# Altium footprint library 3 Pin Header Surface Mount.PcbLib: 1 footprints
Each footprint in its own frame and in the unit in brackets; x right, y up, seen from the top. Pads: shape width x height; smd on the part's side, far side on the other; paste and mask are expansions set on the pad; w line width, h text height; cw(c..) or ccw(c..) is an arc to the next point about the centre after c.
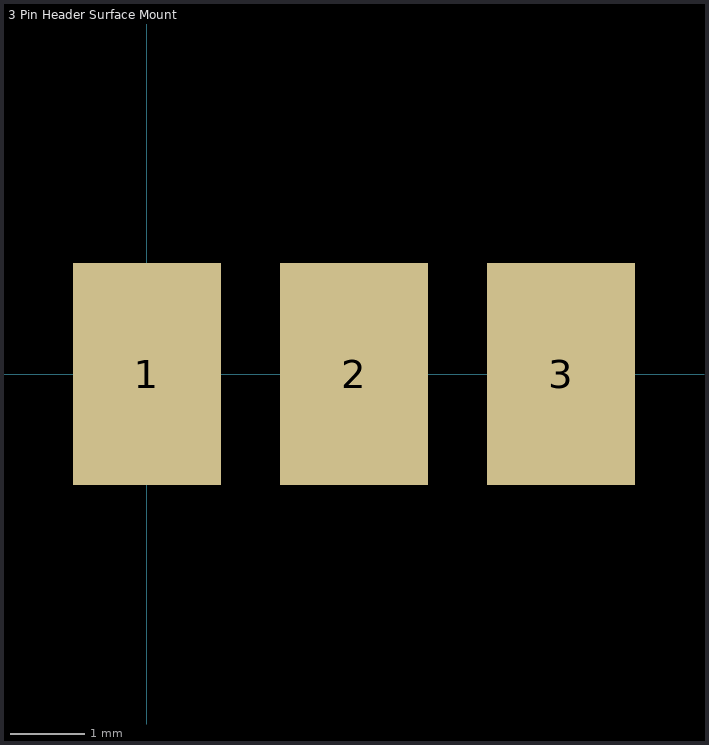
[diagram p0: the footprint, top view; thin cyan lines are the x and y axes]

## 3 Pin Header Surface Mount [mm]
pads (3):
  rect 2x3 smd: 1(0,0) 2(2.794,0) 3(5.588,0)